# Altium schematic symbol library MP1584EN.SchLib: 1 symbol
Pins are listed as number, name and electrical type; pins without a type are passive.

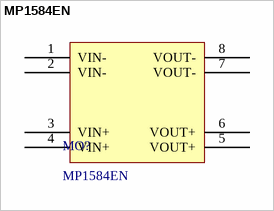
[diagram p0: symbol MP1584EN]

## MP1584EN
designator MO?
footprint PCBComponent_1
pins: 1 VIN-, 2 VIN-, 3 VIN+, 4 VIN+, 5 VOUT+, 6 VOUT+, 7 VOUT-, 8 VOUT-